# EAGLE library part 6270XX21621_62704421621 (library WR-BHD)
WR-BHD 1.27 mm Male Characteristics Working Voltage: 250 V Operating Temperature : -40°C up to 105°C UL approval: E323964 UL94-V0 Applications Industrial Production lines Details see: www.we-online.com/components/products/WTB_WR_BHD_BOX_HEADER_1_27MM_MALE Updated by Ella 2026-09-16 2026 (C) Würth Elektronik
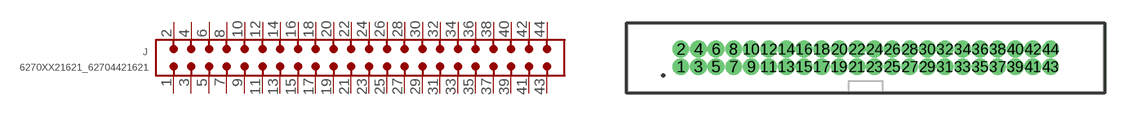
[diagram p201: symbol with the pads of 62704421621; footprint 62704421621]

Designator prefix J

## 6270XX21621_62704421621 (CATEGORY: Connectors; DATASHEET: https://www.we-online.com/redexpert/spec/62704421621?ae; GENDER: Male; LENGTH: 34.29 mm; MANUFACTURER: Würth Elektronik; MOUNT: THT; MPN: 62704421621; OPERATING_TEMPERATURE: -40 °C up to +105 °C; PACKAGING: Tube; PINS: 44; PITCH: 1.27mm; RATED_CURRENT: 1 A; SIZE: THT Straight; TYPE: Straight; VALUE: 62704421621)  [62704421621]
1  1  pas
2  2  pas
3  3  pas
4  4  pas
5  5  pas
6  6  pas
7  7  pas
8  8  pas
9  9  pas
10  10  pas
11  11  pas
12  12  pas
13  13  pas
14  14  pas
15  15  pas
16  16  pas
17  17  pas
18  18  pas
19  19  pas
20  20  pas
21  21  pas
22  22  pas
23  23  pas
24  24  pas
25  25  pas
26  26  pas
27  27  pas
28  28  pas
29  29  pas
30  30  pas
31  31  pas
32  32  pas
33  33  pas
34  34  pas
35  35  pas
36  36  pas
37  37  pas
38  38  pas
39  39  pas
40  40  pas
41  41  pas
42  42  pas
43  43  pas
44  44  pas

## Footprint 62704421621 (pad centres in mm)
WR-BHD Wire-to-Board Connectors, 1.27mm, Male, THT Straight, 44pins
drill 0.7 pad 1.05: 1 -13.335,-0.635; 2 -13.335,0.635; 3 -12.065,-0.635; 4 -12.065,0.635; 5 -10.795,-0.635; 6 -10.795,0.635; 7 -9.525,-0.635; 8 -9.525,0.635; 9 -8.255,-0.635; 10 -8.255,0.635; 11 -6.985,-0.635; 12 -6.985,0.635; 13 -5.715,-0.635; 14 -5.715,0.635; 15 -4.445,-0.635; 16 -4.445,0.635; 17 -3.175,-0.635; 18 -3.175,0.635; 19 -1.905,-0.635; 20 -1.905,0.635; 21 -0.635,-0.635; 22 -0.635,0.635; 23 0.635,-0.635; 24 0.635,0.635; 25 1.905,-0.635; 26 1.905,0.635; 27 3.175,-0.635; 28 3.175,0.635; 29 4.445,-0.635; 30 4.445,0.635; 31 5.715,-0.635; 32 5.715,0.635; 33 6.985,-0.635; 34 6.985,0.635; 35 8.255,-0.635; 36 8.255,0.635; 37 9.525,-0.635; 38 9.525,0.635; 39 10.795,-0.635; 40 10.795,0.635; 41 12.065,-0.635; 42 12.065,0.635; 43 13.335,-0.635; 44 13.335,0.635